# Altium integrated library 发光二极管.IntLib: 2 symbols
Pins are listed as number, name and electrical type; pins without a type are passive.

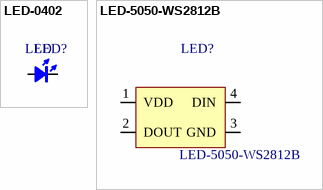
[diagram p0: symbols LED-0402 to LED-5050-WS2812B]

## LED-0402
designator LED?, comment LED
Type: 0402; Value: color?
footprint LED-0402-RED
footprint LED-0402-BLUE
footprint LED-0402-GREEN
footprint LED-0402-WHITE
pins: 1 A, 2 K

## LED-5050-WS2812B
designator LED?
footprint LED-5050-WS2812B
pins: 1 VDD, 2 DOUT, 3 GND, 4 DIN